# Altium integrated library Motorola Video Horz Processor Deflector.IntLib: 1 symbol
Pins are listed as number, name and electrical type; pins without a type are passive.

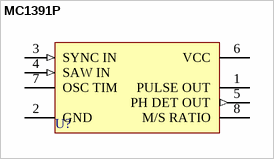
[diagram p0: symbol MC1391P]

## MC1391P
designator U?
TV Horizontal Processor; Published: 17-Jul-2002; LatestRevisionDate: 06-Jun-2005; LatestRevisionNote: Stylized 3D Model Added.; DatasheetVersion: 1988; PackageReference: 626-05; Publisher: Altium Limited; PackageDescription: DIP; 8 Leads; Row Spacing 7.62 mm; Pitch 2.54 mm
footprint 626-05 (DIP; 8 Leads; Row Spacing 7.62 mm; Pitch 2.54 mm)
3D model 626-05 (DIP; 8 Leads; Row Spacing 7.62 mm; Pitch 2.54 mm)
pins: 1 PULSE OUT (oc), 2 GND (power), 3 SYNC IN (in), 4 SAW IN (in), 5 PH DET OUT (out), 6 VCC (power), 7 OSC TIM, 8 M/S RATIO (oe)